# Altium footprint library pcb.PcbLib: 34 footprints (part 1 of 3)
Each footprint in its own frame and in the unit in brackets; x right, y up, seen from the top. Pads: shape width x height; smd on the part's side, far side on the other; paste and mask are expansions set on the pad; w line width, h text height; cw(c..) or ccw(c..) is an arc to the next point about the centre after c.
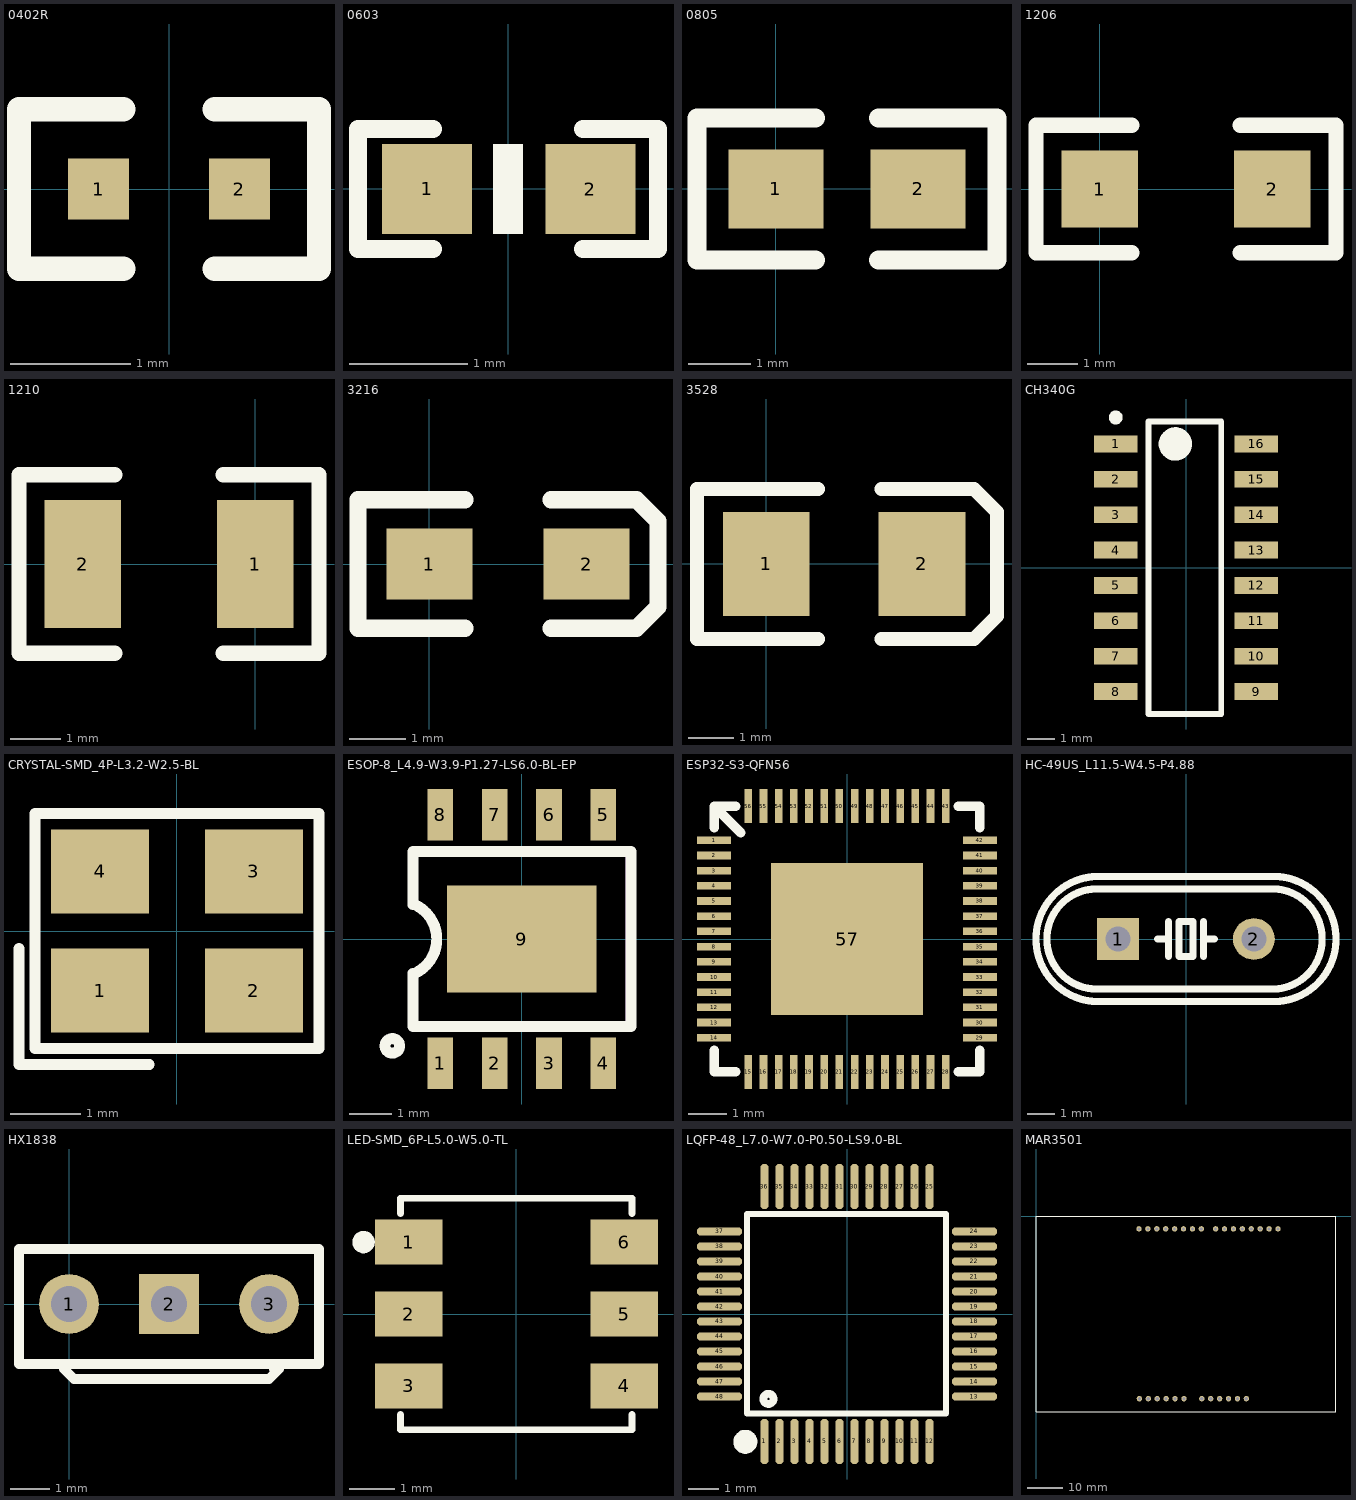
[diagram p0: the footprints below, top view; thin cyan lines are the x and y axes]

## 0402R [mil]
pads (2):
  rect 20x20 smd: 1(-23,0) 2(23,0)
Top Overlay:
  lines w8: -15,-26 -49,-26 -49,26 -15,26 ; 15,-26 49,-26 49,26 15,26

## 0603 [mil]
pads (2):
  rect 30x30 smd: 1(-27,0) 2(27.5,-0.06)
Top Overlay:
  region: 5,-15.06 5,14.94 -5,14.94 -5,-15.06
  lines w6: -25,-20.06 -50,-20.06 -50,19.94 -25,19.94 ; 25,-20.06 50,-20.06 50,19.94 25,19.94

## 0805 [mil]
pads (2):
  rect 60x50 smd: 1(0,-0.06) 2(90,-0.06)
Top Overlay:
  lines w12: 25,-45.06 -50,-45.06 -50,44.94 25,44.94 ; 65,-45.06 140,-45.06 140,44.94 65,44.94

## 1206 [mil]
pads (2):
  rect 60x60 smd: 1(0,0) 2(135,0)
Top Overlay:
  lines w12: 25,-50 -50,-50 -50,50 25,50 ; 110,-50 185,-50 185,50 110,50

## 1210 [mil]
pads (2):
  rect 60x100 smd: 1(0,0) 2(-135,0)
Top Overlay:
  lines w12: -110,-70 -185,-70 -185,70 -110,70 ; -25,-70 50,-70 50,70 -25,70

## 3216 [mil]
pads (2):
  rect 60x50 smd: 1(0,0) 2(110,0)
Top Overlay:
  lines w12: 25,-45 -50,-45 -50,45 25,45 ; 85,-45 145,-45 160,-30 160,30 145,45 85,45

## 3528 [mil]
pads (2):
  rect 75x90 smd: 1(0,0) 2(135,0)
Top Overlay:
  lines w12: 45,-65 -60,-65 -60,65 45,65 ; 100,-65 180,-65 200,-45 200,45 180,65 100,65

## CH340G [mm]
height 1.75
pads (16):
  rect 1.55x0.6 smd: 1(-2.521,4.445) 2(-2.521,3.175) 3(-2.521,1.905) 4(-2.521,0.635) 5(-2.521,-0.635) 6(-2.521,-1.905) 7(-2.521,-3.175) 8(-2.521,-4.445) 9(2.521,-4.445) 10(2.521,-3.175) 11(2.521,-1.905) 12(2.521,-0.635) 13(2.521,0.635) 14(2.521,1.905) 15(2.521,3.175) 16(2.521,4.445)
Top Overlay:
  circle w0.25: c-2.521,5.395 r0.125
  circle w0.6: c-0.381,4.445 r0.3
  lines w0.2: -1.346,-5.25 -1.346,5.25 1.27,5.25 1.27,-5.25 -1.346,-5.25

## CRYSTAL-SMD_4P-L3.2-W2.5-BL [mil]
pads (4):
  rect 55.1x47.2 smd mask+2: 1(-43.3,-33.5) 2(43.3,-33.5) 3(43.3,33.5) 4(-43.3,33.5)
Top Overlay:
  lines w6: -88.9,-9.8 -88.9,-75.1 -15.7,-75.1 ; -79.9,-66.1 -79.9,66.1 79.9,66.1 79.9,-66.1 -79.9,-66.1

## ESOP-8_L4.9-W3.9-P1.27-LS6.0-BL-EP [mil]
pads (9):
  rect 23.6x47.2 smd mask+2: 1(-75,-114.5) 2(-25,-114.5) 3(25,-114.5) 4(75,-114.5) 5(75,114.5) 6(25,114.5) 7(-25,114.5) 8(-75,114.5)
  rect 137.8x98.4 smd mask+2: 9(0,0)
Top Overlay:
  lines w10: -125.98,-98.89 -125.84,-99.86 ; -125.98,-97.91 -125.84,-96.94 ; -125.56,-100.79 -125.14,-101.68 ; -125.56,-96.01 -125.14,-95.12 ; -124.6,-102.49 -123.95,-103.22 ; -124.6,-94.31 -123.95,-93.58 ; -123.2,-103.85 -122.36,-104.36 ; -123.2,-92.95 -122.36,-92.44 ; -121.46,-104.74 -120.52,-104.99 ; -121.46,-92.06 -120.52,-91.81 ; -119.54,-105.1 -118.57,-105.06 ; -119.54,-91.7 -118.57,-91.74 ; -117.61,-104.88 -116.68,-104.57 ; -117.61,-91.92 -116.68,-92.23 ; -115.81,-104.12 -115.01,-103.55 ; -115.81,-92.68 -115.01,-93.25 ; -114.31,-102.87 -113.71,-102.1 ; -114.31,-93.93 -113.71,-94.7 ; -113.23,-101.24 -112.88,-100.33 ; -113.23,-95.56 -112.88,-96.47 ; -112.67,-99.38 -112.6,-98.4 -112.67,-97.42 ; -100.4,-31.5 -100.4,-80.7 100.4,-80.7 100.4,80.7 -100.4,80.7 -100.4,31.5 ; -98.42,-31.5 -97.52,-31.06 ; -98.42,31.5 -97.52,31.06 ; -96.64,-30.6 -95.77,-30.11 ; -96.64,30.6 -95.77,30.11 ; -94.91,-29.6 -94.07,-29.07 ; -94.91,29.6 -94.07,29.07 ; -93.25,-28.51 -92.44,-27.92 ; -93.25,28.51 -92.44,27.92 ; -91.65,-27.32 -90.87,-26.69 ; -91.65,27.32 -90.87,26.69 ; -90.12,-26.04 -89.38,-25.37 ; -90.12,26.04 -89.38,25.37 ; -88.66,-24.67 -87.97,-23.96 ; -88.66,24.67 -87.97,23.96 ; -87.29,-23.23 -86.63,-22.47 ; -87.29,23.23 -86.63,22.47 ; -86,-21.7 -85.39,-20.92 ; -86,21.7 -85.39,20.92 ; -84.8,-20.11 -84.24,-19.29 ; -84.8,20.11 -84.24,19.29 ; -83.7,-18.45 -83.18,-17.6 ; -83.7,18.45 -83.18,17.6 ; -82.69,-16.73 -82.22,-15.85 ; -82.69,16.73 -82.22,15.85 ; -81.78,-14.95 -81.36,-14.05 ; -81.78,14.95 -81.36,14.05 ; -80.97,-13.13 -80.61,-12.2 ; -80.97,13.13 -80.61,12.2 ; -80.28,-11.26 -79.97,-10.31 ; -80.28,11.26 -79.97,10.31 ; -79.68,-9.36 -79.43,-8.39 ; -79.68,9.36 -79.43,8.39 ; -79.2,-7.42 -79,-6.45 ; -79.2,7.42 -79,6.45 ; -78.83,-5.46 -78.69,-4.48 ; -78.83,5.46 -78.69,4.48 ; -78.58,-3.48 -78.49,-2.49 ; -78.58,3.48 -78.49,2.49 ; -78.43,-1.5 -78.41,-0.5 ; -78.43,1.5 -78.41,0.5
Mechanical 15:
  lines w2: -96.5,-76.8 96.5,-76.8 96.5,76.8 -96.5,76.8

## ESP32-S3-QFN56 [mil]
pads (57):
  rect 35.4x7.9 smd mask+2: 1(-137.8,102.4) 2(-137.8,86.6) 3(-137.8,70.9) 4(-137.8,55.1) 5(-137.8,39.4) 6(-137.8,23.6) 7(-137.8,7.9) 8(-137.8,-7.9) 9(-137.8,-23.6) 10(-137.8,-39.4) 11(-137.8,-55.1) 12(-137.8,-70.9) 13(-137.8,-86.6) 14(-137.8,-102.4) 29(137.8,-102.4) 30(137.8,-86.6) 31(137.8,-70.9) 32(137.8,-55.1) 33(137.8,-39.4) 34(137.8,-23.6) 35(137.8,-7.9) 36(137.8,7.9) 37(137.8,23.6) 38(137.8,39.4) 39(137.8,55.1) 40(137.8,70.9) 41(137.8,86.6) 42(137.8,102.4)
  rect 7.9x35.4 smd mask+2: 15(-102.4,-137.8) 16(-86.6,-137.8) 17(-70.9,-137.8) 18(-55.1,-137.8) 19(-39.4,-137.8) 20(-23.6,-137.8) 21(-7.9,-137.8) 22(7.9,-137.8) 23(23.6,-137.8) 24(39.4,-137.8) 25(55.1,-137.8) 26(70.9,-137.8) 27(86.6,-137.8) 28(102.4,-137.8) 43(102.4,137.8) 44(86.6,137.8) 45(70.9,137.8) 46(55.1,137.8) 47(39.4,137.8) 48(23.6,137.8) 49(7.9,137.8) 50(-7.9,137.8) 51(-23.6,137.8) 52(-39.4,137.8) 53(-55.1,137.8) 54(-70.9,137.8) 55(-86.6,137.8) 56(-102.4,137.8)
  rect 157.5x157.5 smd mask+2: 57(0,0)
Top Overlay:
  lines w10: -137.8,-115.4 -137.8,-137.8 -115.4,-137.8 ; -137.8,115.4 -137.8,137.8 ; -115.4,137.8 -137.8,137.8 ; -110,110 -137.8,137.8 ; 115.4,-137.8 137.8,-137.8 137.8,-115.4 ; 115.4,137.8 137.8,137.8 137.8,115.4

## HC-49US_L11.5-W4.5-P4.88 [mil]
pads (2):
  rect 59.1x59.1 hole 35.4 mask+2: 1(-96.1,0)
  round 59.1 hole 35.4 mask+2: 2(96.1,0)
Top Overlay:
  drawing of 518 lines, arcs and shapes, not listed
Mechanical 15:
  drawing of 286 lines, arcs and shapes, not listed

## HX1838 [mil]
pads (3):
  round 60 hole 36 mask+4: 1(0,0) 3(200,0)
  rect 60x60 hole 36 mask+4: 2(100,0)
Top Overlay:
  lines w10: -5,-65 0,-70 5,-75 200,-75 210,-65 205,-65 ; -50,-60 -50,55 250,55 250,-60 -50,-60

## LED-SMD_6P-L5.0-W5.0-TL [mil]
pads (6):
  rect 59.1x39.4 smd mask+2: 1(-94.5,63) 2(-94.5,0) 3(-94.5,-63) 4(94.5,-63) 5(94.5,0) 6(94.5,63)
Top Overlay:
  lines w6: -101.4,-88.1 -101.4,-101.4 101.4,-101.4 101.4,-88.1 ; -101.4,88.1 -101.4,101.4 101.4,101.4 101.4,88.1
  lines w9.8: -138.77,62.5 -138.58,61.53 ; -138.77,63.5 -138.58,64.47 ; -138.18,60.62 -137.62,59.81 ; -138.18,65.38 -137.62,66.19 ; -136.9,59.13 -136.06,58.6 ; -136.9,66.87 -136.06,67.4 ; -135.13,58.26 -134.15,58.11 ; -135.13,67.74 -134.15,67.89 ; -133.16,58.16 -132.2,58.41 ; -133.16,67.84 -132.2,67.59 ; -131.31,58.84 -130.52,59.45 ; -131.31,67.16 -130.52,66.55 ; -129.88,60.2 -129.4,61.07 ; -129.88,65.8 -129.4,64.93 ; -129.1,62.01 -129,63 -129.1,63.99

## LQFP-48_L7.0-W7.0-P0.50-LS9.0-BL [mil]
pads (48):
  oct 10.6x59.1 smd mask+1.97: 1(-108.3,-167.3) 2(-88.6,-167.3) 3(-68.9,-167.3) 4(-49.2,-167.3) 5(-29.5,-167.3) 6(-9.8,-167.3) 7(9.8,-167.3) 8(29.5,-167.3) 9(49.2,-167.3) 10(68.9,-167.3) 11(88.6,-167.3) 12(108.3,-167.3) 25(108.3,167.3) 26(88.6,167.3) 27(68.9,167.3) 28(49.2,167.3) 29(29.5,167.3) 30(9.8,167.3) 31(-9.8,167.3) 32(-29.5,167.3) 33(-49.2,167.3) 34(-68.9,167.3) 35(-88.6,167.3) 36(-108.3,167.3)
  oct 59.1x10.6 smd mask+1.97: 13(167.3,-108.3) 14(167.3,-88.6) 15(167.3,-68.9) 16(167.3,-49.2) 17(167.3,-29.5) 18(167.3,-9.8) 19(167.3,9.8) 20(167.3,29.5) 21(167.3,49.2) 22(167.3,68.9) 23(167.3,88.6) 24(167.3,108.3) 37(-167.3,108.3) 38(-167.3,88.6) 39(-167.3,68.9) 40(-167.3,49.2) 41(-167.3,29.5) 42(-167.3,9.8) 43(-167.3,-9.8) 44(-167.3,-29.5) 45(-167.3,-49.2) 46(-167.3,-68.9) 47(-167.3,-88.6) 48(-167.3,-108.3)
Top Overlay:
  lines w7.9: -114,131.5 130,131.5 130,-130.5 -131,-130.5 -131,131.5 -101,131.5
  lines w10: -109.78,-111.89 -109.64,-112.86 ; -109.78,-110.91 -109.64,-109.94 ; -109.36,-113.79 -108.94,-114.68 ; -109.36,-109.01 -108.94,-108.12 ; -108.4,-115.49 -107.75,-116.22 ; -108.4,-107.31 -107.75,-106.58 ; -107,-116.85 -106.16,-117.36 ; -107,-105.95 -106.16,-105.44 ; -105.26,-117.74 -104.32,-117.99 ; -105.26,-105.06 -104.32,-104.81 ; -103.34,-118.1 -102.37,-118.06 ; -103.34,-104.7 -102.37,-104.74 ; -101.41,-117.88 -100.48,-117.57 ; -101.41,-104.92 -100.48,-105.23 ; -99.61,-117.12 -98.81,-116.55 ; -99.61,-105.68 -98.81,-106.25 ; -98.11,-115.87 -97.51,-115.1 ; -98.11,-106.93 -97.51,-107.7 ; -97.03,-114.24 -96.68,-113.33 ; -97.03,-108.56 -96.68,-109.47 ; -96.47,-112.38 -96.4,-111.4 -96.47,-110.42
  lines w15.7: -141.28,-167.98 -141.25,-167.01 ; -141.19,-168.94 -140.98,-169.89 ; -141.11,-166.06 -140.85,-165.13 ; -140.65,-170.8 -140.22,-171.66 ; -140.47,-164.23 -139.99,-163.39 ; -139.69,-172.47 -139.06,-173.2 ; -139.41,-162.62 -138.74,-161.92 ; -138.34,-173.85 -137.55,-174.41 ; -137.99,-161.31 -137.17,-160.8 ; -136.7,-174.87 -135.8,-175.21 ; -136.3,-160.39 -135.38,-160.09 ; -134.86,-175.45 -133.9,-175.57 ; -134.43,-159.91 -133.46,-159.84 ; -133.36,-159.84 -132.4,-159.91 ; -132.93,-175.57 -131.97,-175.45 ; -131.45,-160.09 -130.53,-160.39 ; -131.03,-175.21 -130.13,-174.87 ; -129.65,-160.8 -128.83,-161.31 ; -129.28,-174.41 -128.49,-173.85 ; -128.08,-161.92 -127.41,-162.62 ; -127.77,-173.2 -127.14,-172.47 ; -126.83,-163.39 -126.35,-164.23 ; -126.61,-171.66 -126.17,-170.8 ; -125.98,-165.13 -125.72,-166.06 ; -125.85,-169.89 -125.64,-168.94 ; -125.55,-167.98 -125.57,-167.01

## MAR3501 [mil]
pads (28):
  round 60 hole 36 mask+4: 1(1155,-140) 2(1255,-140) 3(1355,-140) 4(1455,-140) 5(1555,-140) 6(1655,-140) 7(1755,-140) 8(1855,-140) 9(2015,-140) 10(2115,-140) 11(2215,-140) 12(2315,-140) 13(2415,-140) 14(2515,-140) 15(2615,-140) 16(2715,-140) 17(2360,-2045) 18(2260,-2045) 19(2160,-2045) 20(2060,-2045) 21(1960,-2045) 22(1860,-2045) 23(1660,-2045) 24(1560,-2045) 25(1460,-2045) 26(1360,-2045) 27(1260,-2045) 28(1160,-2045)
Top Overlay:
  lines w10: 0,-2190.2 0,0 3365.8,0 3365.8,-2190.2 0,-2190.2